# EAGLE library part 5103310-8 (library Tyco_By_element14_Batch_1)
WIRE-BOARD CONN, HEADER, 40POS
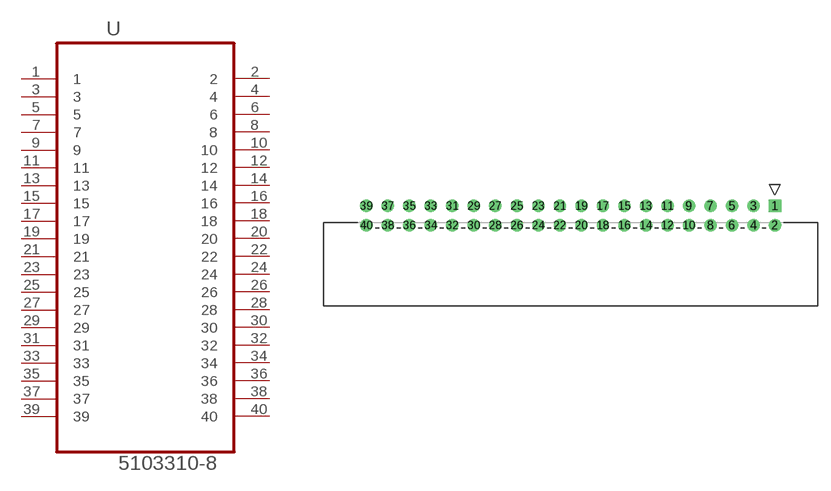
[diagram p111: symbol with the pads of TYCO_5103310-8; footprint TYCO_5103310-8]

Designator prefix U

## 5103310-8 (MPN: 5103310-8; OC_FARNELL: 1374914; OC_NEWARK: 39M4092; PACKAGE: 40 AWY HEADER; SUPPLIER: TycoElectronics)  [TYCO_5103310-8]
1  1  pas
2  2  pas
3  3  pas
4  4  pas
5  5  pas
6  6  pas
7  7  pas
8  8  pas
9  9  pas
10  10  pas
11  11  pas
12  12  pas
13  13  pas
14  14  pas
15  15  pas
16  16  pas
17  17  pas
18  18  pas
19  19  pas
20  20  pas
21  21  pas
22  22  pas
23  23  pas
24  24  pas
25  25  pas
26  26  pas
27  27  pas
28  28  pas
29  29  pas
30  30  pas
31  31  pas
32  32  pas
33  33  pas
34  34  pas
35  35  pas
36  36  pas
37  37  pas
38  38  pas
39  39  pas
40  40  pas

## Footprint TYCO_5103310-8 (pad centres in mm)
drill 0.965 square: 1 0,4.826
drill 0.965: 2 0,2.54; 3 -2.54,4.826; 4 -2.54,2.54; 5 -5.08,4.826; 6 -5.08,2.54; 7 -7.62,4.826; 8 -7.62,2.54; 9 -10.16,4.826; 10 -10.16,2.54; 11 -12.7,4.826; 12 -12.7,2.54; 13 -15.24,4.826; 14 -15.24,2.54; 15 -17.78,4.826; 16 -17.78,2.54; 17 -20.32,4.826; 18 -20.32,2.54; 19 -22.86,4.826; 20 -22.86,2.54; 21 -25.4,4.826; 22 -25.4,2.54; 23 -27.94,4.826; 24 -27.94,2.54; 25 -30.48,4.826; 26 -30.48,2.54; 27 -33.02,4.826; 28 -33.02,2.54; 29 -35.56,4.826; 30 -35.56,2.54; 31 -38.1,4.826; 32 -38.1,2.54; 33 -40.64,4.826; 34 -40.64,2.54; 35 -43.18,4.826; 36 -43.18,2.54; 37 -45.72,4.826; 38 -45.72,2.54; 39 -48.26,4.826; 40 -48.26,2.54